# EAGLE library part LED_HEADER (library WallerLabLib)
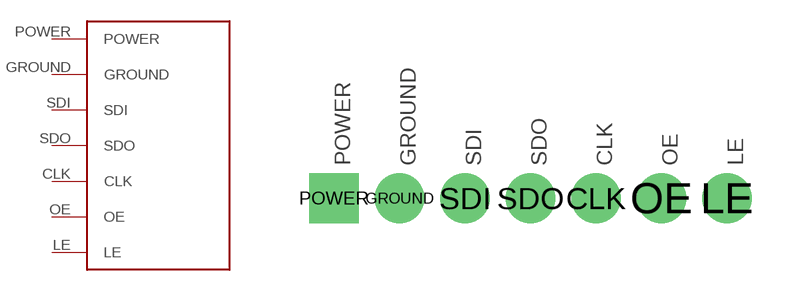
[diagram p7: symbol with the pads of 7PIN_HOLES; footprint 7PIN_HOLES]

Designator prefix -

## LED_HEADER  [7PIN_HOLES]
CLK  CLK
GROUND  GROUND
LE  LE
OE  OE
POWER  POWER
SDI  SDI
SDO  SDO

## Footprint 7PIN_HOLES (pad centres in mm)
drill 0.9 pad 1.93: CLK 1.43,-3.095; GROUND -6.19,-3.095; LE 6.51,-3.095; OE 3.97,-3.095; SDI -3.65,-3.095; SDO -1.11,-3.095
drill 0.9 pad 1.93 square: POWER -8.73,-3.095